# Altium footprint library Connector_Hirose.PcbLib: 136 footprints (part 1 of 9)
Each footprint in its own frame and in the unit in brackets; x right, y up, seen from the top. Pads: shape width x height; smd on the part's side, far side on the other; paste and mask are expansions set on the pad; w line width, h text height; cw(c..) or ccw(c..) is an arc to the next point about the centre after c.
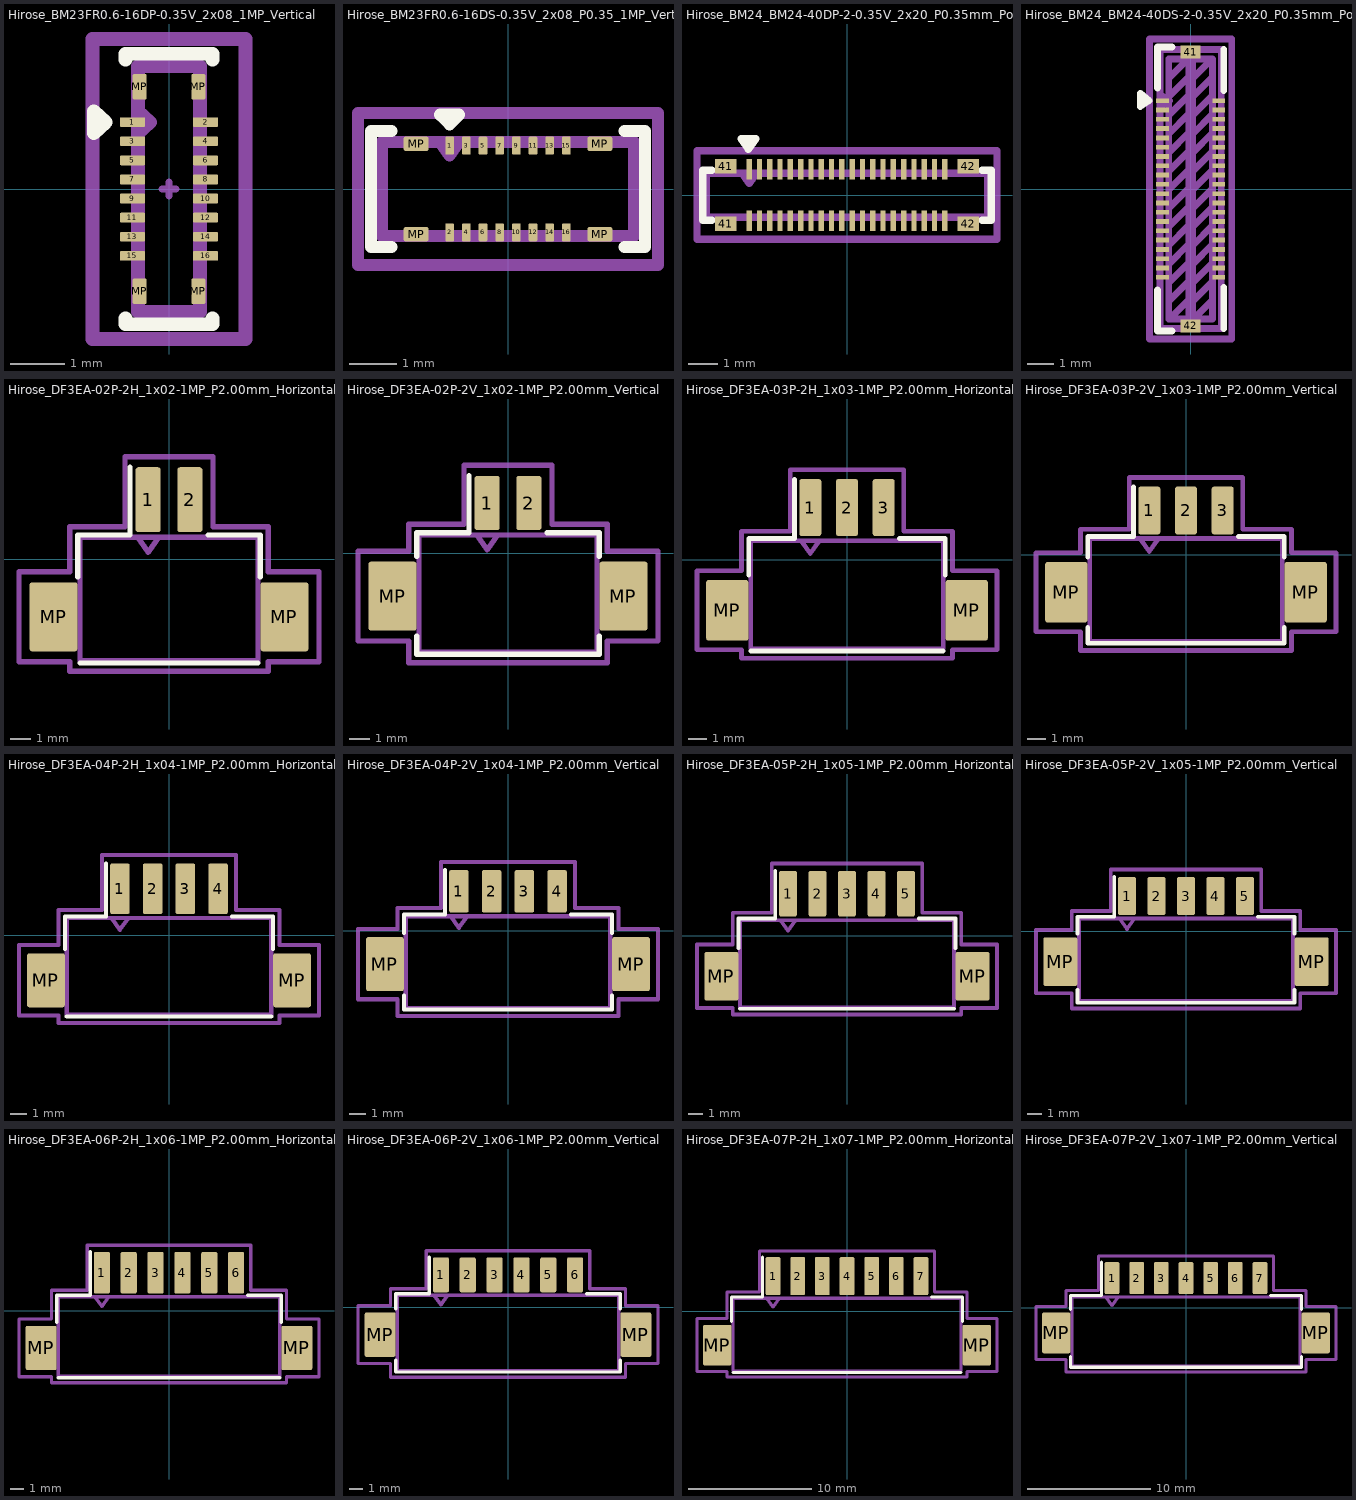
[diagram p0: the footprints below, top view; thin cyan lines are the x and y axes]

## Hirose_BM23FR0.6-16DP-0.35V_2x08_1MP_Vertical [mm]
pads (20):
  rrect25% 0.46x0.18 smd: 1(-0.67,1.225) 2(0.67,1.225) 3(-0.67,0.875) 4(0.67,0.875) 5(-0.67,0.525) 6(0.67,0.525) 7(-0.67,0.175) 8(0.67,0.175) 9(-0.67,-0.175) 10(0.67,-0.175) 11(-0.67,-0.525) 12(0.67,-0.525) 13(-0.67,-0.875) 14(0.67,-0.875) 15(-0.67,-1.225) 16(0.67,-1.225)
  rrect25% 0.26x0.47 smd: MP(-0.54,-1.875) MP(-0.54,1.875) MP(0.54,-1.875) MP(0.54,1.875)
F.SilkS:
  lines w0.254: -0.8,-2.37 -0.8,-2.48 0.8,-2.48 0.8,-2.37 ; -0.8,2.37 -0.8,2.48 0.8,2.48 0.8,2.37 ; -1.38,1.025 -1.38,1.425 -1.16,1.225 -1.38,1.025
Top Component Center:
  lines w0.127: -0.127,0 0.127,0 ; 0,-0.127 0,0.127
Top Assembly:
  lines w0.254: -0.57,1.025 -0.35,1.225 -0.57,1.425 ; -0.57,-2.25 -0.57,2.25 0.57,2.25 0.57,-2.25 -0.57,-2.25
  text "'.Designator'" at 0.583,-2.828 h0.7
Top Courtyard:
  lines w0.254: -1.4,-2.75 -1.4,2.75 1.4,2.75 1.4,-2.75 -1.4,-2.75
Top Designator:
  text ".Designator" at -7.618,-0.533 h1.52

## Hirose_BM23FR0.6-16DS-0.35V_2x08_P0.35_1MP_Vertical [mm]
pads (20):
  rrect25% 0.18x0.38 smd: 1(-1.225,0.91) 2(-1.225,-0.91) 3(-0.875,0.91) 4(-0.875,-0.91) 5(-0.525,0.91) 6(-0.525,-0.91) 7(-0.175,0.91) 8(-0.175,-0.91) 9(0.175,0.91) 10(0.175,-0.91) 11(0.525,0.91) 12(0.525,-0.91) 13(0.875,0.91) 14(0.875,-0.91) 15(1.225,0.91) 16(1.225,-0.91)
  rrect25% 0.52x0.3 smd: MP(-1.93,-0.95) MP(-1.93,0.95) MP(1.93,-0.95) MP(1.93,0.95)
F.SilkS:
  lines w0.254: -2.45,-1.22 -2.88,-1.22 -2.88,1.22 -2.45,1.22 ; 2.45,-1.22 2.88,-1.22 2.88,1.22 2.45,1.22 ; -1.425,1.56 -1.025,1.56 -1.225,1.36 -1.425,1.56
Top Assembly:
  lines w0.254: -1.425,0.99 -1.225,0.7 -1.025,0.99 ; -2.65,-0.99 2.65,-0.99 2.65,0.99 -2.65,0.99 -2.65,-0.99
  text "'.Designator'" at -4.047,-0.84 h1
Top Courtyard:
  lines w0.254: -3.15,-1.6 3.15,-1.6 3.15,1.6 -3.15,1.6 -3.15,-1.6
Top Designator:
  text ".Designator" at -7.768,-0.508 h1.52

## Hirose_BM24_BM24-40DP-2-0.35V_2x20_P0.35mm_PowerPin2_Vertical [mm]
pads (44):
  rect 0.18x0.69 smd: 1(-3.325,0.875) 2(-3.325,-0.875) 3(-2.975,0.875) 4(-2.975,-0.875) 5(-2.625,0.875) 6(-2.625,-0.875) 7(-2.275,0.875) 8(-2.275,-0.875) 9(-1.925,0.875) 10(-1.925,-0.875) 11(-1.575,0.875) 12(-1.575,-0.875) 13(-1.225,0.875) 14(-1.225,-0.875) 15(-0.875,0.875) 16(-0.875,-0.875) 17(-0.525,0.875) 18(-0.525,-0.875) 19(-0.175,0.875) 20(-0.175,-0.875) 21(0.175,0.875) 22(0.175,-0.875) 23(0.525,0.875) 24(0.525,-0.875) 25(0.875,0.875) 26(0.875,-0.875) 27(1.225,0.875) 28(1.225,-0.875) 29(1.575,0.875) 30(1.575,-0.875) 31(1.925,0.875) 32(1.925,-0.875) 33(2.275,0.875) 34(2.275,-0.875) 35(2.625,0.875) 36(2.625,-0.875) 37(2.975,0.875) 38(2.975,-0.875) 39(3.325,0.875) 40(3.325,-0.875)
  rect 0.73x0.49 smd: 41(-4.125,-0.975) 41(-4.125,0.975) 42(4.125,-0.975) 42(4.125,0.975)
F.SilkS:
  lines w0.254: -4.6,-0.85 -4.9,-0.85 -4.9,0.85 -4.6,0.85 ; 4.6,-0.85 4.9,-0.85 4.9,0.85 4.6,0.85 ; -3.6,1.914 -3.1,1.914 -3.35,1.56 -3.6,1.914
Top Assembly:
  lines w0.254: -3.575,0.75 -3.325,0.4 -3.075,0.75 ; -4.785,-0.75 4.785,-0.75 4.785,0.75 -4.785,0.75 -4.785,-0.75
  text "'.Designator'" at -4.047,-1.65 h1
Top Courtyard:
  lines w0.254: -5.1,-1.5 5.1,-1.5 5.1,1.5 -5.1,1.5 -5.1,-1.5
Top Designator:
  text ".Designator" at -7.618,-0.554 h1.52

## Hirose_BM24_BM24-40DS-2-0.35V_2x20_P0.35mm_PowerPin2_Vertical [mm]
pads (42):
  rect 0.48x0.18 smd: 1(-1.06,3.325) 2(1.06,3.325) 3(-1.06,2.975) 4(1.06,2.975) 5(-1.06,2.625) 6(1.06,2.625) 7(-1.06,2.275) 8(1.06,2.275) 9(-1.06,1.925) 10(1.06,1.925) 11(-1.06,1.575) 12(1.06,1.575) 13(-1.06,1.225) 14(1.06,1.225) 15(-1.06,0.875) 16(1.06,0.875) 17(-1.06,0.525) 18(1.06,0.525) 19(-1.06,0.175) 20(1.06,0.175) 21(-1.06,-0.175) 22(1.06,-0.175) 23(-1.06,-0.525) 24(1.06,-0.525) 25(-1.06,-0.875) 26(1.06,-0.875) 27(-1.06,-1.225) 28(1.06,-1.225) 29(-1.06,-1.575) 30(1.06,-1.575) 31(-1.06,-1.925) 32(1.06,-1.925) 33(-1.06,-2.275) 34(1.06,-2.275) 35(-1.06,-2.625) 36(1.06,-2.625) 37(-1.06,-2.975) 38(1.06,-2.975) 39(-1.06,-3.325) 40(1.06,-3.325)
  rect 0.76x0.49 smd: 41(0,5.155) 42(0,-5.155)
F.SilkS:
  lines w0.254: -1.25,-3.8 -1.25,-5.35 -0.7,-5.35 ; -1.25,3.8 -1.25,5.35 -0.7,5.35 ; 1.25,-5.25 1.25,-3.7 ; 1.25,3.7 1.25,5.25 ; -1.9,3.1 -1.56,3.325 -1.9,3.6 -1.9,3.1
Top Assembly:
  lines w0.254: -1.15,3.075 -0.8,3.325 -1.15,3.575 ; -1.15,-5.25 1.15,-5.25 1.15,5.25 -1.15,5.25 -1.15,-5.25
  text "'.Designator'" at 0.99,-4.047 h1
Top Courtyard:
  lines w0.254: -1.55,-5.65 1.55,-5.65 1.55,5.65 -1.55,5.65 -1.55,-5.65
Top Designator:
  text ".Designator" at -7.793,-0.508 h1.52
Dwgs.User:
  lines w0.254: -0.8,-4.9 -0.1,-4.2 ; -0.8,-4.2 -0.1,-3.5 ; -0.8,-3.5 -0.1,-2.8 ; -0.8,-2.8 -0.1,-2.1 ; -0.8,-2.1 -0.1,-1.4 ; -0.8,-1.4 -0.1,-0.7 ; -0.8,-0.7 -0.1,0 ; -0.8,0 -0.1,0.7 ; -0.8,0.7 -0.1,1.4 ; -0.8,1.4 -0.1,2.1 ; -0.8,2.1 -0.1,2.8 ; -0.8,2.8 -0.1,3.5 ; -0.8,3.5 -0.1,4.2 ; -0.8,4.2 -0.1,4.9 ; 0.1,-4.9 0.8,-4.2 ; 0.1,-4.2 0.8,-3.5 ; 0.1,-3.5 0.8,-2.8 ; 0.1,-2.8 0.8,-2.1 ; 0.1,-2.1 0.8,-1.4 ; 0.1,-1.4 0.8,-0.7 ; 0.1,-0.7 0.8,0 ; 0.1,0 0.8,0.7 ; 0.1,0.7 0.8,1.4 ; 0.1,1.4 0.8,2.1 ; 0.1,2.1 0.8,2.8 ; 0.1,2.8 0.8,3.5 ; 0.1,3.5 0.8,4.2 ; 0.1,4.2 0.8,4.9 ; -0.82,-4.9 -0.07,-4.9 -0.07,4.9 -0.82,4.9 -0.82,-4.9 ; 0.07,-4.9 0.82,-4.9 0.82,4.9 0.07,4.9 0.07,-4.9
Cmts.User:
  text "No exposed copper" at 0.803,-3.373 h0.5
  text "No exposed copper" at -0.097,-3.373 h0.5

## Hirose_DF3EA-02P-2H_1x02-1MP_P2.00mm_Horizontal [mm]
pads (4):
  rrect21% 1.2x3.1 smd: 1(-1,2.85) 2(1,2.85)
  rrect11% 2.3x3.3 smd: MP(-5.52,-2.75) MP(5.52,-2.75)
F.SilkS:
  lines w0.254: -4.36,-0.84 -4.36,1.16 -1.86,1.16 -1.86,4.4 ; -4.25,-4.96 4.25,-4.96 ; 1.86,1.16 4.36,1.16 4.36,-0.84
Top Assembly:
  lines w0.254: -1.5,1.05 -1,0.343 -0.5,1.05 ; -4.25,-4.85 4.25,-4.85 4.25,1.05 -4.25,1.05 -4.25,-4.85
  text "'.Designator'" at -4.047,-2.74 h1
Top Courtyard:
  lines w0.254: -7.17,-4.9 -4.75,-4.9 -4.75,-5.35 4.75,-5.35 4.75,-4.9 7.17,-4.9 7.17,-0.6 4.75,-0.6 4.75,1.55 2.1,1.55 2.1,4.9 -2.1,4.9 -2.1,1.55 -4.75,1.55 -4.75,-0.6 -7.17,-0.6 -7.17,-4.9
Top Designator:
  text ".Designator" at -7.618,-0.733 h1.52

## Hirose_DF3EA-02P-2V_1x02-1MP_P2.00mm_Vertical [mm]
pads (4):
  rrect21% 1.2x2.6 smd: 1(-1,2.4) 2(1,2.4)
  rrect11% 2.3x3.3 smd: MP(-5.52,-2.05) MP(5.52,-2.05)
F.SilkS:
  lines w0.254: -4.36,-3.96 -4.36,-4.835 4.36,-4.835 4.36,-3.96 ; -4.36,-0.14 -4.36,0.985 -1.86,0.985 -1.86,3.7 ; 1.86,0.985 4.36,0.985 4.36,-0.14
Top Assembly:
  lines w0.254: -1.5,0.875 -1,0.168 -0.5,0.875 ; -4.25,-4.725 4.25,-4.725 4.25,0.875 -4.25,0.875 -4.25,-4.725
  text "'.Designator'" at -4.047,-2.76 h1
Top Courtyard:
  lines w0.254: -7.17,-4.2 -4.75,-4.2 -4.75,-5.23 4.75,-5.23 4.75,-4.2 7.17,-4.2 7.17,0.1 4.75,0.1 4.75,1.38 2.1,1.38 2.1,4.2 -2.1,4.2 -2.1,1.38 -4.75,1.38 -4.75,0.1 -7.17,0.1 -7.17,-4.2
Top Designator:
  text ".Designator" at -7.618,-1.023 h1.52

## Hirose_DF3EA-03P-2H_1x03-1MP_P2.00mm_Horizontal [mm]
pads (5):
  rrect21% 1.2x3.1 smd: 1(-2,2.85) 2(0,2.85) 3(2,2.85)
  rrect11% 2.3x3.3 smd: MP(-6.52,-2.75) MP(6.52,-2.75)
F.SilkS:
  lines w0.254: -5.36,-0.84 -5.36,1.16 -2.86,1.16 -2.86,4.4 ; -5.25,-4.96 5.25,-4.96 ; 2.86,1.16 5.36,1.16 5.36,-0.84
Top Assembly:
  lines w0.254: -2.5,1.05 -2,0.343 -1.5,1.05 ; -5.25,-4.85 5.25,-4.85 5.25,1.05 -5.25,1.05 -5.25,-4.85
  text "'.Designator'" at -4.047,-2.74 h1
Top Courtyard:
  lines w0.254: -8.17,-4.9 -5.75,-4.9 -5.75,-5.35 5.75,-5.35 5.75,-4.9 8.17,-4.9 8.17,-0.6 5.75,-0.6 5.75,1.55 3.1,1.55 3.1,4.9 -3.1,4.9 -3.1,1.55 -5.75,1.55 -5.75,-0.6 -8.17,-0.6 -8.17,-4.9
Top Designator:
  text ".Designator" at -7.618,-0.733 h1.52

## Hirose_DF3EA-03P-2V_1x03-1MP_P2.00mm_Vertical [mm]
pads (5):
  rrect21% 1.2x2.6 smd: 1(-2,2.4) 2(0,2.4) 3(2,2.4)
  rrect11% 2.3x3.3 smd: MP(-6.52,-2.05) MP(6.52,-2.05)
F.SilkS:
  lines w0.254: -5.36,-3.96 -5.36,-4.835 5.36,-4.835 5.36,-3.96 ; -5.36,-0.14 -5.36,0.985 -2.86,0.985 -2.86,3.7 ; 2.86,0.985 5.36,0.985 5.36,-0.14
Top Assembly:
  lines w0.254: -2.5,0.875 -2,0.168 -1.5,0.875 ; -5.25,-4.725 5.25,-4.725 5.25,0.875 -5.25,0.875 -5.25,-4.725
  text "'.Designator'" at -4.047,-2.76 h1
Top Courtyard:
  lines w0.254: -8.17,-4.2 -5.75,-4.2 -5.75,-5.23 5.75,-5.23 5.75,-4.2 8.17,-4.2 8.17,0.1 5.75,0.1 5.75,1.38 3.1,1.38 3.1,4.2 -3.1,4.2 -3.1,1.38 -5.75,1.38 -5.75,0.1 -8.17,0.1 -8.17,-4.2
Top Designator:
  text ".Designator" at -7.618,-1.023 h1.52

## Hirose_DF3EA-04P-2H_1x04-1MP_P2.00mm_Horizontal [mm]
pads (6):
  rrect21% 1.2x3.1 smd: 1(-3,2.85) 2(-1,2.85) 3(1,2.85) 4(3,2.85)
  rrect11% 2.3x3.3 smd: MP(-7.52,-2.75) MP(7.52,-2.75)
F.SilkS:
  lines w0.254: -6.36,-0.84 -6.36,1.16 -3.86,1.16 -3.86,4.4 ; -6.25,-4.96 6.25,-4.96 ; 3.86,1.16 6.36,1.16 6.36,-0.84
Top Assembly:
  lines w0.254: -3.5,1.05 -3,0.343 -2.5,1.05 ; -6.25,-4.85 6.25,-4.85 6.25,1.05 -6.25,1.05 -6.25,-4.85
  text "'.Designator'" at -4.047,-2.74 h1
Top Courtyard:
  lines w0.254: -9.17,-4.9 -6.75,-4.9 -6.75,-5.35 6.75,-5.35 6.75,-4.9 9.17,-4.9 9.17,-0.6 6.75,-0.6 6.75,1.55 4.1,1.55 4.1,4.9 -4.1,4.9 -4.1,1.55 -6.75,1.55 -6.75,-0.6 -9.17,-0.6 -9.17,-4.9
Top Designator:
  text ".Designator" at -7.618,-0.733 h1.52

## Hirose_DF3EA-04P-2V_1x04-1MP_P2.00mm_Vertical [mm]
pads (6):
  rrect21% 1.2x2.6 smd: 1(-3,2.4) 2(-1,2.4) 3(1,2.4) 4(3,2.4)
  rrect11% 2.3x3.3 smd: MP(-7.52,-2.05) MP(7.52,-2.05)
F.SilkS:
  lines w0.254: -6.36,-3.96 -6.36,-4.835 6.36,-4.835 6.36,-3.96 ; -6.36,-0.14 -6.36,0.985 -3.86,0.985 -3.86,3.7 ; 3.86,0.985 6.36,0.985 6.36,-0.14
Top Assembly:
  lines w0.254: -3.5,0.875 -3,0.168 -2.5,0.875 ; -6.25,-4.725 6.25,-4.725 6.25,0.875 -6.25,0.875 -6.25,-4.725
  text "'.Designator'" at -4.047,-2.76 h1
Top Courtyard:
  lines w0.254: -9.17,-4.2 -6.75,-4.2 -6.75,-5.23 6.75,-5.23 6.75,-4.2 9.17,-4.2 9.17,0.1 6.75,0.1 6.75,1.38 4.1,1.38 4.1,4.2 -4.1,4.2 -4.1,1.38 -6.75,1.38 -6.75,0.1 -9.17,0.1 -9.17,-4.2
Top Designator:
  text ".Designator" at -7.618,-1.023 h1.52

## Hirose_DF3EA-05P-2H_1x05-1MP_P2.00mm_Horizontal [mm]
pads (7):
  rrect21% 1.2x3.1 smd: 1(-4,2.85) 2(-2,2.85) 3(0,2.85) 4(2,2.85) 5(4,2.85)
  rrect11% 2.3x3.3 smd: MP(-8.52,-2.75) MP(8.52,-2.75)
F.SilkS:
  lines w0.254: -7.36,-0.84 -7.36,1.16 -4.86,1.16 -4.86,4.4 ; -7.25,-4.96 7.25,-4.96 ; 4.86,1.16 7.36,1.16 7.36,-0.84
Top Assembly:
  lines w0.254: -4.5,1.05 -4,0.343 -3.5,1.05 ; -7.25,-4.85 7.25,-4.85 7.25,1.05 -7.25,1.05 -7.25,-4.85
  text "'.Designator'" at -4.047,-2.74 h1
Top Courtyard:
  lines w0.254: -10.17,-4.9 -7.75,-4.9 -7.75,-5.35 7.75,-5.35 7.75,-4.9 10.17,-4.9 10.17,-0.6 7.75,-0.6 7.75,1.55 5.1,1.55 5.1,4.9 -5.1,4.9 -5.1,1.55 -7.75,1.55 -7.75,-0.6 -10.17,-0.6 -10.17,-4.9
Top Designator:
  text ".Designator" at -7.618,-0.733 h1.52

## Hirose_DF3EA-05P-2V_1x05-1MP_P2.00mm_Vertical [mm]
pads (7):
  rrect21% 1.2x2.6 smd: 1(-4,2.4) 2(-2,2.4) 3(0,2.4) 4(2,2.4) 5(4,2.4)
  rrect11% 2.3x3.3 smd: MP(-8.52,-2.05) MP(8.52,-2.05)
F.SilkS:
  lines w0.254: -7.36,-3.96 -7.36,-4.835 7.36,-4.835 7.36,-3.96 ; -7.36,-0.14 -7.36,0.985 -4.86,0.985 -4.86,3.7 ; 4.86,0.985 7.36,0.985 7.36,-0.14
Top Assembly:
  lines w0.254: -4.5,0.875 -4,0.168 -3.5,0.875 ; -7.25,-4.725 7.25,-4.725 7.25,0.875 -7.25,0.875 -7.25,-4.725
  text "'.Designator'" at -4.047,-2.76 h1
Top Courtyard:
  lines w0.254: -10.17,-4.2 -7.75,-4.2 -7.75,-5.23 7.75,-5.23 7.75,-4.2 10.17,-4.2 10.17,0.1 7.75,0.1 7.75,1.38 5.1,1.38 5.1,4.2 -5.1,4.2 -5.1,1.38 -7.75,1.38 -7.75,0.1 -10.17,0.1 -10.17,-4.2
Top Designator:
  text ".Designator" at -7.618,-1.023 h1.52

## Hirose_DF3EA-06P-2H_1x06-1MP_P2.00mm_Horizontal [mm]
pads (8):
  rrect21% 1.2x3.1 smd: 1(-5,2.85) 2(-3,2.85) 3(-1,2.85) 4(1,2.85) 5(3,2.85) 6(5,2.85)
  rrect11% 2.3x3.3 smd: MP(-9.52,-2.75) MP(9.52,-2.75)
F.SilkS:
  lines w0.254: -8.36,-0.84 -8.36,1.16 -5.86,1.16 -5.86,4.4 ; -8.25,-4.96 8.25,-4.96 ; 5.86,1.16 8.36,1.16 8.36,-0.84
Top Assembly:
  lines w0.254: -5.5,1.05 -5,0.343 -4.5,1.05 ; -8.25,-4.85 8.25,-4.85 8.25,1.05 -8.25,1.05 -8.25,-4.85
  text "'.Designator'" at -4.047,-2.74 h1
Top Courtyard:
  lines w0.254: -11.17,-4.9 -8.75,-4.9 -8.75,-5.35 8.75,-5.35 8.75,-4.9 11.17,-4.9 11.17,-0.6 8.75,-0.6 8.75,1.55 6.1,1.55 6.1,4.9 -6.1,4.9 -6.1,1.55 -8.75,1.55 -8.75,-0.6 -11.17,-0.6 -11.17,-4.9
Top Designator:
  text ".Designator" at -7.618,-0.733 h1.52

## Hirose_DF3EA-06P-2V_1x06-1MP_P2.00mm_Vertical [mm]
pads (8):
  rrect21% 1.2x2.6 smd: 1(-5,2.4) 2(-3,2.4) 3(-1,2.4) 4(1,2.4) 5(3,2.4) 6(5,2.4)
  rrect11% 2.3x3.3 smd: MP(-9.52,-2.05) MP(9.52,-2.05)
F.SilkS:
  lines w0.254: -8.36,-3.96 -8.36,-4.835 8.36,-4.835 8.36,-3.96 ; -8.36,-0.14 -8.36,0.985 -5.86,0.985 -5.86,3.7 ; 5.86,0.985 8.36,0.985 8.36,-0.14
Top Assembly:
  lines w0.254: -5.5,0.875 -5,0.168 -4.5,0.875 ; -8.25,-4.725 8.25,-4.725 8.25,0.875 -8.25,0.875 -8.25,-4.725
  text "'.Designator'" at -4.047,-2.76 h1
Top Courtyard:
  lines w0.254: -11.17,-4.2 -8.75,-4.2 -8.75,-5.23 8.75,-5.23 8.75,-4.2 11.17,-4.2 11.17,0.1 8.75,0.1 8.75,1.38 6.1,1.38 6.1,4.2 -6.1,4.2 -6.1,1.38 -8.75,1.38 -8.75,0.1 -11.17,0.1 -11.17,-4.2
Top Designator:
  text ".Designator" at -7.618,-1.023 h1.52

## Hirose_DF3EA-07P-2H_1x07-1MP_P2.00mm_Horizontal [mm]
pads (9):
  rrect21% 1.2x3.1 smd: 1(-6,2.85) 2(-4,2.85) 3(-2,2.85) 4(0,2.85) 5(2,2.85) 6(4,2.85) 7(6,2.85)
  rrect11% 2.3x3.3 smd: MP(-10.52,-2.75) MP(10.52,-2.75)
F.SilkS:
  lines w0.254: -9.36,-0.84 -9.36,1.16 -6.86,1.16 -6.86,4.4 ; -9.25,-4.96 9.25,-4.96 ; 6.86,1.16 9.36,1.16 9.36,-0.84
Top Assembly:
  lines w0.254: -6.5,1.05 -6,0.343 -5.5,1.05 ; -9.25,-4.85 9.25,-4.85 9.25,1.05 -9.25,1.05 -9.25,-4.85
  text "'.Designator'" at -4.047,-2.74 h1
Top Courtyard:
  lines w0.254: -12.17,-4.9 -9.75,-4.9 -9.75,-5.35 9.75,-5.35 9.75,-4.9 12.17,-4.9 12.17,-0.6 9.75,-0.6 9.75,1.55 7.1,1.55 7.1,4.9 -7.1,4.9 -7.1,1.55 -9.75,1.55 -9.75,-0.6 -12.17,-0.6 -12.17,-4.9
Top Designator:
  text ".Designator" at -7.618,-0.733 h1.52

## Hirose_DF3EA-07P-2V_1x07-1MP_P2.00mm_Vertical [mm]
pads (9):
  rrect21% 1.2x2.6 smd: 1(-6,2.4) 2(-4,2.4) 3(-2,2.4) 4(0,2.4) 5(2,2.4) 6(4,2.4) 7(6,2.4)
  rrect11% 2.3x3.3 smd: MP(-10.52,-2.05) MP(10.52,-2.05)
F.SilkS:
  lines w0.254: -9.36,-3.96 -9.36,-4.835 9.36,-4.835 9.36,-3.96 ; -9.36,-0.14 -9.36,0.985 -6.86,0.985 -6.86,3.7 ; 6.86,0.985 9.36,0.985 9.36,-0.14
Top Assembly:
  lines w0.254: -6.5,0.875 -6,0.168 -5.5,0.875 ; -9.25,-4.725 9.25,-4.725 9.25,0.875 -9.25,0.875 -9.25,-4.725
  text "'.Designator'" at -4.047,-2.76 h1
Top Courtyard:
  lines w0.254: -12.17,-4.2 -9.75,-4.2 -9.75,-5.23 9.75,-5.23 9.75,-4.2 12.17,-4.2 12.17,0.1 9.75,0.1 9.75,1.38 7.1,1.38 7.1,4.2 -7.1,4.2 -7.1,1.38 -9.75,1.38 -9.75,0.1 -12.17,0.1 -12.17,-4.2
Top Designator:
  text ".Designator" at -7.618,-1.023 h1.52